# EAGLE library part BLDC_STACK_HEADER_SIG (library jack_libs)
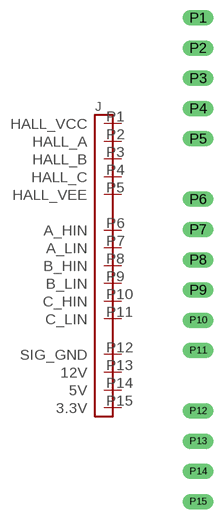
[diagram p8: symbol with the pads of BLDC_STACK_HEADER_SIG; footprint BLDC_STACK_HEADER_SIG]

Designator prefix J

## BLDC_STACK_HEADER_SIG  [BLDC_STACK_HEADER_SIG]
P1  HALL_VCC
P2  HALL_A
P3  HALL_B
P4  HALL_C
P5  HALL_VEE
P6  A_HIN
P7  A_LIN
P8  B_HIN
P9  B_LIN
P10  C_HIN
P11  C_LIN
P12  SIG_GND
P13  12V
P14  5V
P15  3.3V

## Footprint BLDC_STACK_HEADER_SIG (pad centres in mm)
drill 0.8 long: P1 0,20.32; P2 0,17.78; P3 0,15.24; P4 0,12.7; P5 0,10.16; P6 0,5.08; P7 0,2.54; P8 0,0; P9 0,-2.54; P10 0,-5.08; P11 0,-7.62; P12 0,-12.7; P13 0,-15.24; P14 0,-17.78; P15 0,-20.32